# Altium footprint library switch.PcbLib: 44 footprints (part 1 of 3)
Each footprint in its own frame and in the unit in brackets; x right, y up, seen from the top. Pads: shape width x height; smd on the part's side, far side on the other; paste and mask are expansions set on the pad; w line width, h text height; cw(c..) or ccw(c..) is an arc to the next point about the centre after c.
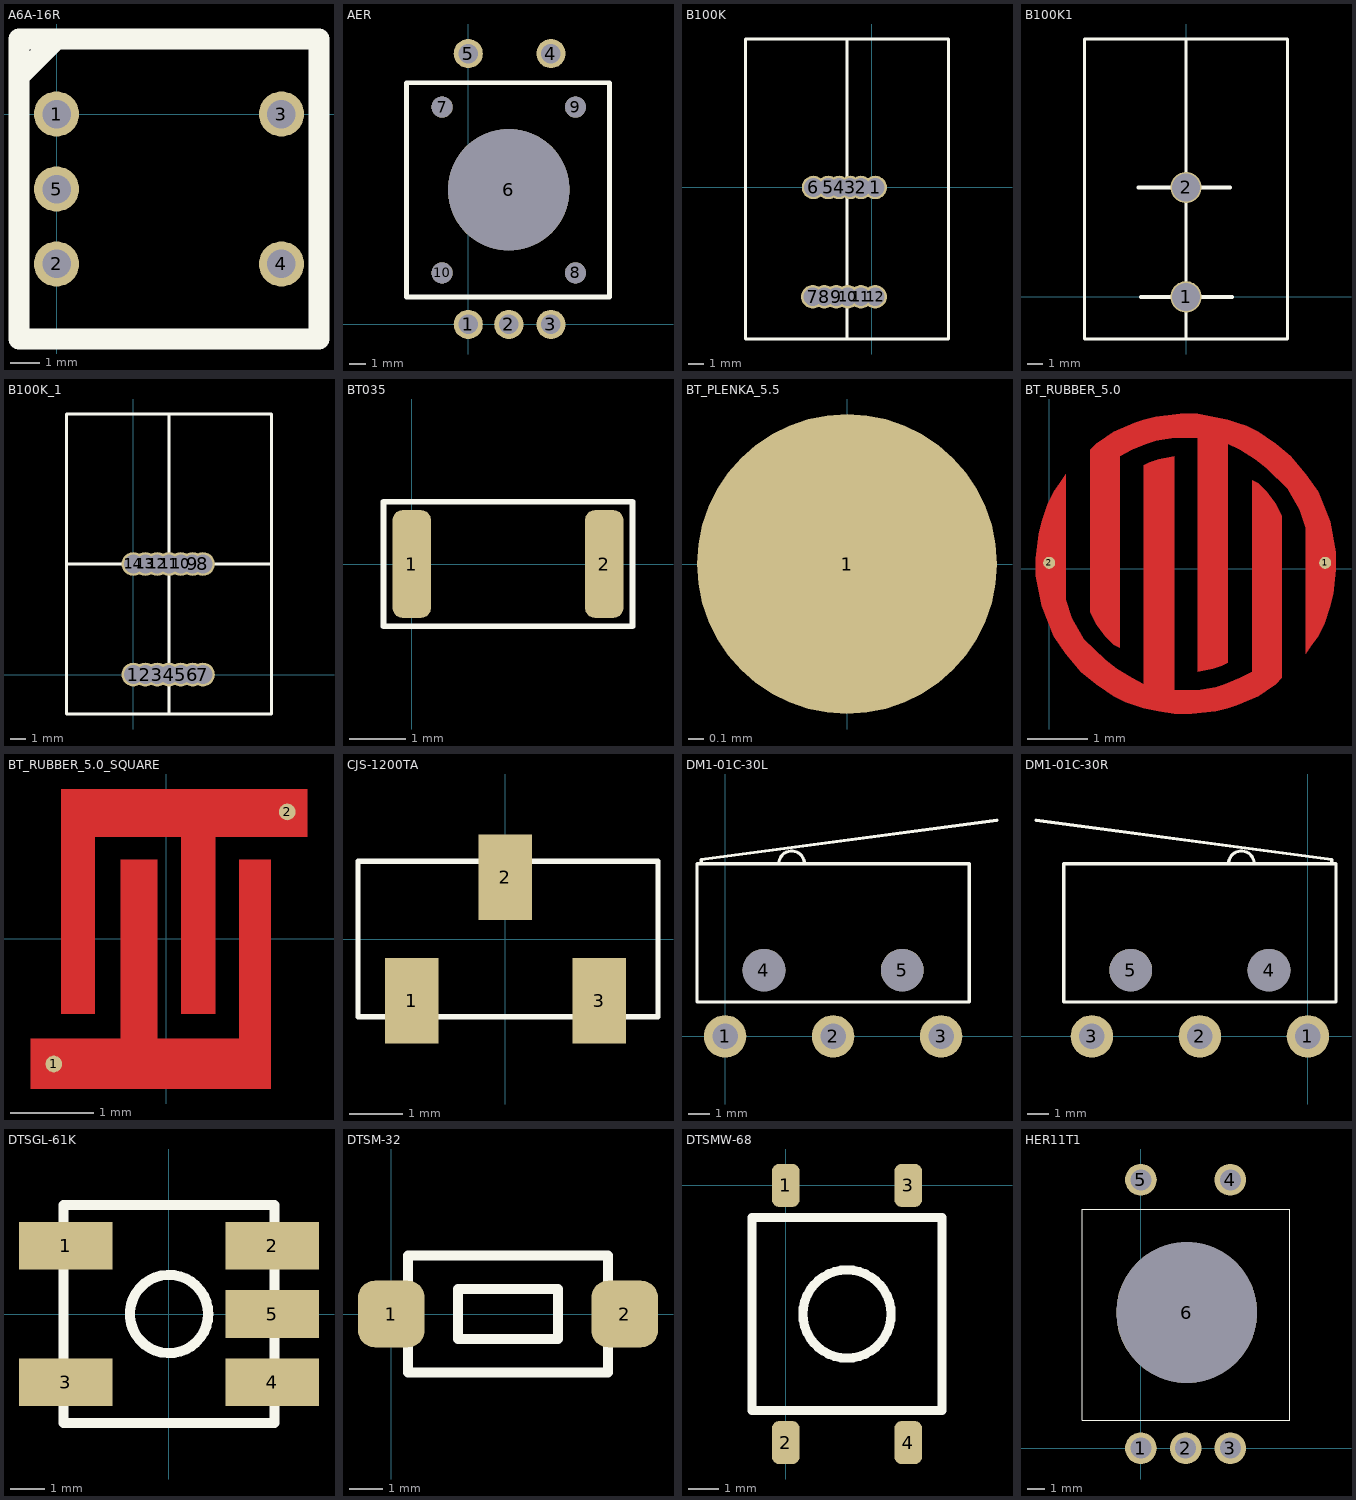
[diagram p0: the footprints below, top view; thin cyan lines are the x and y axes]

## A6A-16R [mil]
pads (5):
  round 60 hole 38: 1(0,0) 2(0,-200) 3(300,0) 4(300,-200) 5(0,-100)
Top Overlay:
  lines w27.56: -50,50 0,100 ; -50,-300 350,-300 350,100 -50,100 -50,-300

## AER [mm]
pads (10):
  round 1.8 hole 1.2 unplated: 1(0,0) 2(2.5,0) 3(5.1,0) 4(5.1,16.7) 5(0,16.7)
  round 7.5 hole 7.5: 6(2.5,8.3)
  round 1.3 hole 1.3 unplated: 7(-1.61,13.4) 8(6.61,3.18) 9(6.61,13.4) 10(-1.61,3.18)
Top Overlay:
  lines w0.3: -3.8,14.9 -3.8,1.7 8.7,1.7 8.7,14.9 -3.7,14.9
Bottom Overlay:
  lines w0.3: -3.8,14.9 -3.8,1.7 8.7,1.7 8.7,14.9 -3.7,14.9

## B100K [mm]
pads (12):
  round 1.5 hole 1.2: 1(0.21,0) 2(-0.7,0) 3(-1.4,0) 4(-2.1,0) 5(-2.8,0) 6(-3.74,0) 7(-3.79,-7) 8(-3.04,-7) 9(-2.29,-7) 10(-1.54,-7) 11(-0.7,-7) 12(0.21,-7)
Top Overlay:
  lines w0.2: -8.1,-9.7 -8.1,9.5 ; -8.09,-9.7 4.86,-9.7 ; -8.09,9.5 4.91,9.5 4.91,-9.7 ; -1.59,-9.7 -1.59,9.5

## B100K1 [mm]
pads (2):
  round 2 hole 1.8: 1(0,0) 2(0,7)
Top Overlay:
  lines w0.2: -6.51,-2.7 -6.51,16.5 ; -6.5,-2.7 6.45,-2.7 ; -6.5,16.5 6.5,16.5 6.5,-2.7 ; 0,-2.7 0,16.5
  lines w0.254: -3.05,7 2.8,7 ; -2.9,0 2.95,0

## B100K_1 [mm]
pads (14):
  round 1.5 hole 1.2: 1(0,0) 2(0.75,0) 3(1.5,0) 4(2.25,0) 5(3,0) 6(3.75,0) 7(4.4,0) 8(4.4,7) 9(3.75,7) 10(3,7) 11(2.25,7) 12(1.5,7) 13(0.75,7) 14(0,7)
Top Overlay:
  lines w0.2: -4.25,7 -3.25,7 8.75,7 ; 2.25,-2.5 2.25,7 2.25,16.5 ; -4.25,-2.5 8.75,-2.5 8.75,16.5 -4.25,16.5 -4.25,-2.5

## BT035 [mm]
pads (2):
  rrect50% 0.68x1.9 smd: 1(0,0) 2(3.4,0)
Top Overlay:
  lines w0.1: -0.5,-1.1 -0.5,1.1 3.9,1.1 3.9,-1.1 -0.5,-1.1
3D body "CC-04.step": height 0.58, standoff -0.02, extent -0.06,-1 3.46,1

## BT_PLENKA_5.5 [mm]
pads (3):
  round 2 smd: 1(0,0)
  round 0 all layers, no hole: 2(0,0) 3(0,0)

## BT_RUBBER_5.0 [mm]
pads (2):
  round 0.2 smd: 1(4.6,0.1) 2(0,0.1)
Top Layer:
  region: 0.18,1.43 0.08,1.28 -0.02,1.08 -0.12,0.78 -0.17,0.58 -0.22,0.18 -0.22,-0.12 -0.12,-0.62 0.08,-1.12 0.28,-1.42 0.53,-1.72 0.78,-1.92 1.08,-2.12 1.28,-2.22 1.43,-2.27 1.58,-2.32 1.83,-2.37 2.08,-2.42 2.38,-2.42 2.78,-2.37 2.98,-2.32 3.13,-2.27 3.48,-2.12 3.78,-1.92 3.88,-1.82 3.88,0.88 3.78,1.08 3.63,1.28 3.48,1.43 3.38,1.48 3.38,-1.72 3.18,-1.82 2.93,-1.92 2.78,-1.97 2.48,-2.02 2.08,-2.02 2.08,1.88 1.83,1.83 1.68,1.78 1.58,1.73 1.58,-1.92 1.38,-1.82 1.13,-1.67 0.93,-1.52 0.58,-1.17 0.38,-0.82 0.28,-0.52 0.28,1.58
  region: 4.38,-1.27 4.48,-1.12 4.58,-0.92 4.68,-0.62 4.73,-0.42 4.78,-0.02 4.78,0.28 4.68,0.78 4.48,1.28 4.28,1.58 4.03,1.88 3.78,2.08 3.48,2.28 3.28,2.38 3.13,2.43 2.98,2.48 2.73,2.53 2.48,2.58 2.18,2.58 1.78,2.53 1.58,2.48 1.43,2.43 1.08,2.28 0.78,2.08 0.68,1.98 0.68,-0.72 0.78,-0.92 0.93,-1.12 1.08,-1.27 1.18,-1.32 1.18,1.88 1.38,1.98 1.63,2.08 1.78,2.13 2.08,2.18 2.48,2.18 2.48,-1.72 2.73,-1.67 2.88,-1.62 2.98,-1.57 2.98,2.08 3.18,1.98 3.43,1.83 3.63,1.68 3.98,1.33 4.18,0.98 4.28,0.68 4.28,-1.42
Mid-Layer 1:
  region: 0.08,1.28 -0.02,1.08 -0.03,1.05 -0.12,0.78 -0.17,0.58 -0.22,0.18 -0.22,-0.12 -0.12,-0.62 0.08,-1.12 0.28,-1.42 0.53,-1.72 0.78,-1.92 1.08,-2.12 1.28,-2.22 1.58,-2.32 2.08,-2.42 2.38,-2.42 2.78,-2.37 2.98,-2.32 3.13,-2.27 3.48,-2.12 3.78,-1.92 3.88,-1.82 3.88,0.88 3.78,1.08 3.63,1.28 3.48,1.43 3.38,1.48 3.38,-1.72 3.18,-1.82 2.93,-1.92 2.78,-1.97 2.48,-2.02 2.08,-2.02 2.08,1.88 1.83,1.83 1.68,1.78 1.58,1.73 1.58,-1.92 1.38,-1.82 1.13,-1.67 0.93,-1.52 0.58,-1.17 0.38,-0.82 0.28,-0.52 0.28,1.58
  region: 4.48,-1.12 4.58,-0.92 4.59,-0.89 4.68,-0.62 4.73,-0.42 4.78,-0.02 4.78,0.28 4.68,0.78 4.48,1.28 4.28,1.58 4.03,1.88 3.78,2.08 3.48,2.28 3.28,2.38 2.98,2.48 2.48,2.58 2.18,2.58 1.78,2.53 1.58,2.48 1.43,2.43 1.08,2.28 0.78,2.08 0.68,1.98 0.68,-0.72 0.78,-0.92 0.93,-1.12 1.08,-1.27 1.18,-1.32 1.18,1.88 1.38,1.98 1.63,2.08 1.78,2.13 2.08,2.18 2.48,2.18 2.48,-1.72 2.73,-1.67 2.88,-1.62 2.98,-1.57 2.98,2.08 3.18,1.98 3.43,1.83 3.63,1.68 3.98,1.33 4.18,0.98 4.28,0.68 4.28,-1.42

## BT_RUBBER_5.0_SQUARE [mm]
pads (2):
  round 0.2 smd: 1(-1.35,-1.5) 2(1.45,1.525)
Top Layer:
  region: -1.262,-0.9 -0.862,-0.9 -0.863,1.225 0.178,1.225 0.178,-0.9 0.588,-0.9 0.588,1.225 1.688,1.225 1.688,1.8 -1.262,1.8
  region: -1.625,-1.2 -1.625,-1.8 1.25,-1.8 1.25,0.95 0.875,0.95 0.875,-1.2 -0.11,-1.2 -0.11,0.95 -0.55,0.95 -0.55,-1.2
Top Solder:
  region: -1.625,-1.2 -1.625,-1.8 1.25,-1.8 1.25,0.95 0.875,0.95 0.875,-1.2 -0.11,-1.2 -0.11,0.95 -0.55,0.95 -0.55,-1.2
  region: -1.262,-0.9 -0.862,-0.9 -0.863,1.225 0.178,1.225 0.178,-0.9 0.588,-0.9 0.588,1.225 1.688,1.225 1.688,1.8 -1.262,1.8

## CJS-1200TA [mm]
pads (3):
  rect 1x1.6 smd: 1(-1.75,-1.15) 2(0,1.15) 3(1.75,-1.15)
Top Overlay:
  lines w0.1: -2.75,-1.45 2.85,-1.45 2.85,1.45 -2.75,1.45 -2.75,-1.45
3D body "CJS-1200TA_1.STEP": height 2.52, standoff 0, extent -2.7,-1.4 2.7,1.4

## DM1-01C-30L [mm]
pads (5):
  round 2 hole 1.2: 1(0,0) 2(5.08,0) 3(10.16,0)
  round 2 hole 2: 4(1.83,3.12) 5(8.33,3.12)
Top Overlay:
  lines w0.15: -1.12,8.12 -1.12,8.32 12.786,10.161 ; 2.53,8.12 cw(c3.13,8.12) 3.73,8.12 ; -1.32,1.62 -1.32,8.12 11.48,8.12 11.48,1.62 -1.32,1.62

## DM1-01C-30R [mm]
pads (5):
  round 2 hole 1.2: 1(0,0) 2(-5.08,0) 3(-10.16,0)
  round 2 hole 2: 4(-1.83,3.12) 5(-8.33,3.12)
Top Overlay:
  lines w0.15: -12.786,10.161 1.12,8.32 1.12,8.12 ; -3.73,8.12 cw(c-3.13,8.12) -2.53,8.12 ; -11.48,1.62 1.32,1.62 1.32,8.12 -11.48,8.12 -11.48,1.62

## DTSGL-61K [mm]
pads (5):
  rect 2.75x1.4 smd: 1(-3.03,2) 2(3.03,2) 3(-3.03,-2) 4(3.03,-2) 5(3.03,0)
Top Overlay:
  circle w0.3: c0,0 r1.15
  lines w0.3: -3.1,-3.2 3.1,-3.2 3.1,3.2 -3.1,3.2 -3.1,-3.2
3D body "кнопка DTSGL-61K (ТР520).sldprt": height 2.3, standoff 0, extent -3.338,-3.091 3.462,3.109

## DTSM-32 [mm]
pads (2):
  rrect50% 2x2 smd: 1(0,0) 2(7,0)
Top Overlay:
  lines w0.3: 0.5,-1.75 6.5,-1.75 6.5,1.75 0.5,1.75 0.5,-1.75 ; 2,-0.75 5,-0.75 5,0.75 2,0.75 2,-0.75
3D body "User Library-dtsm-32n.step": height 5.5, standoff 0, extent -0.521,-1.769 7.479,1.731

## DTSMW-68 [mm]
pads (4):
  rrect50% 0.9x1.4 smd: 1(0,0) 2(0,-8.4) 3(4,0) 4(4,-8.4)
Top Overlay:
  circle w0.3: c2,-4.2 r1.442
  lines w0.3: -1.1,-7.35 -1.1,-1.05 5.1,-1.05 5.1,-7.35 -1.1,-7.35

## HER11T1 [mm]
pads (6):
  round 1.8 hole 1.2 unplated: 1(0,0) 2(2.54,0) 3(5.08,0) 4(5.08,15.24) 5(0,15.24)
  round 8 hole 8: 6(2.6,7.7)
Top Overlay:
  lines w0.025: -3.34,1.58 -3.34,7.58 -3.34,13.58 2.56,13.58 8.46,13.58 8.46,10.53 8.46,7.58 8.46,1.58 2.56,1.58 -3.34,1.58
Bottom Overlay:
  lines w0.025: -3.34,1.58 -3.34,7.58 -3.34,13.58 2.56,13.58 8.46,13.58 8.46,10.53 8.46,7.58 8.46,1.58 2.56,1.58 -3.34,1.58